# Altium schematic symbol library SamacSys.SchLib: 27 symbols
Pins are listed as number, name and electrical type; pins without a type are passive.

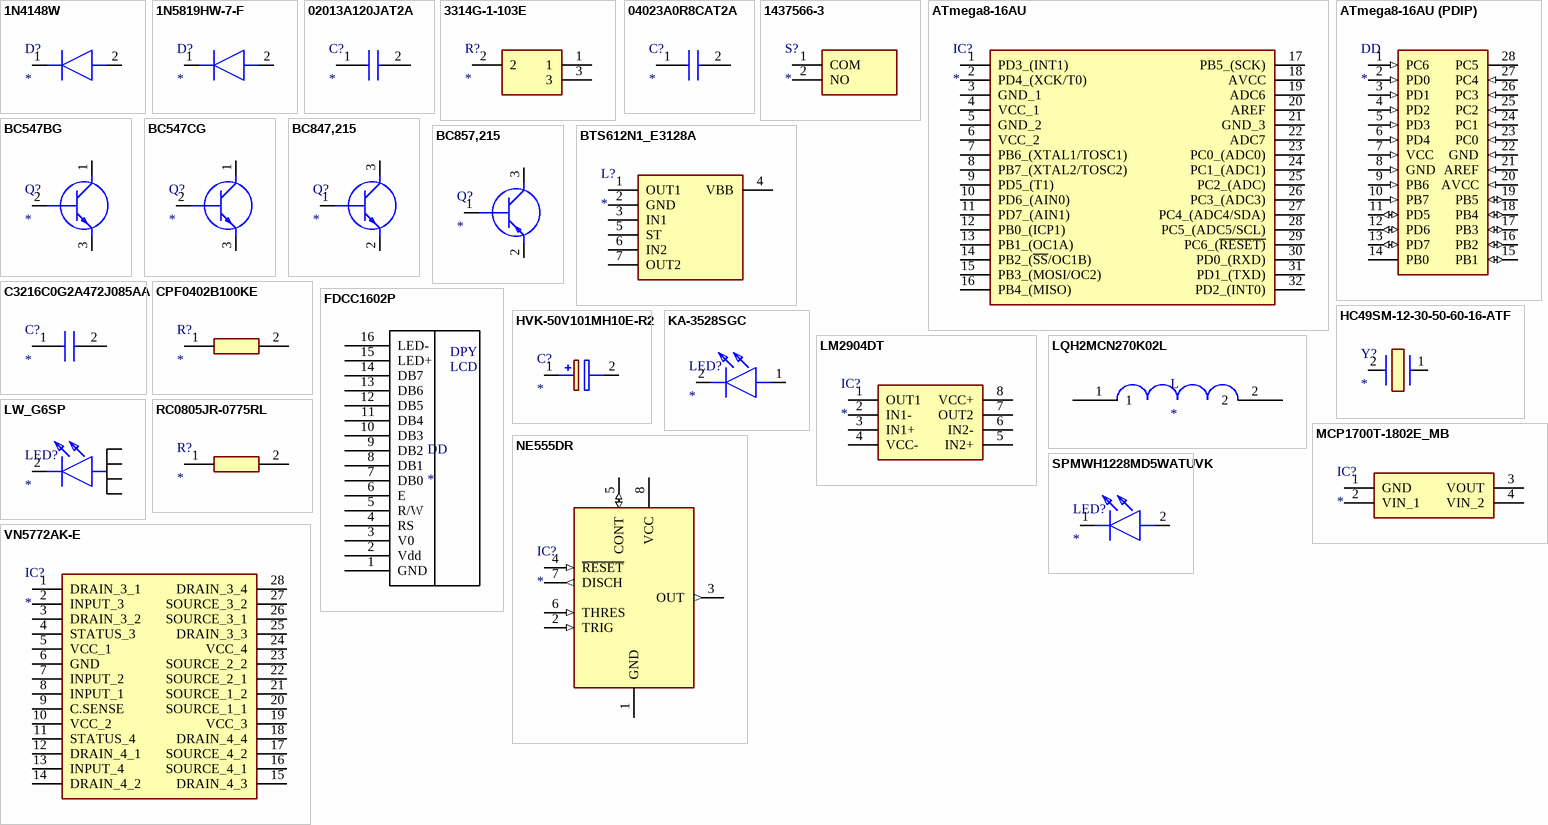
[diagram p0: symbols 1N4148W to VN5772AK-E]

## 1N4148W
designator D?
Diode; Manufacturer_Name: Rectron; Manufacturer_Part_Number: 1N4148W; Datasheet Link: https://www.rectron.com/public/product_datasheets/1n4148w.pdf; Height: 1.25mm; Mouser Part Number: 583-1N4148W; Mouser Price/Stock: https://www.mouser.co.uk/ProductDetail/Rectron/1N4148W?qs=rrS6PyfT74dlwuw0ST2zKA%3D%3D; Arrow Part Number: 1N4148W; Arrow Price/Stock: https://www.arrow.com/en/products/1n4148w/rectron?region=nac
footprint SOD3716X125N
pins: 1 K, 2 A

## 1N5819HW-7-F
designator D?
Diode; Manufacturer_Name: Diodes Inc.; Manufacturer_Part_Number: 1N5819HW-7-F; Datasheet Link: https://datasheet.datasheetarchive.com/originals/distributors/Datasheets-DGA23/1390892.pdf; Height: 1.45mm; Mouser Part Number: 621-1N5819HW-F; Mouser Price/Stock: https://www.mouser.co.uk/ProductDetail/Diodes-Incorporated/1N5819HW-7-F?qs=NQ47qNm99eDyWTEd07miYA%3D%3D; Arrow Part Number: 1N5819HW-7-F; Arrow Price/Stock: https://www.arrow.com/en/products/1n5819hw-7-f/diodes-incorporated?region=europe
footprint SOD3716X145N
pins: 1 K, 2 A

## 02013A120JAT2A
designator C?
Capacitor; Manufacturer_Name: AVX; Manufacturer_Part_Number: 02013A120JAT2A; Datasheet Link: http://www.mouser.com/catalog/supplier/library/pdf/AVXSurfaceMountCeramic.pdf; Height: 0.33mm; Mouser Part Number: 581-02013A120J; Mouser Price/Stock: https://www.mouser.com/Search/Refine.aspx?Keyword=581-02013A120J; Arrow Part Number: 02013A120JAT2A; Arrow Price/Stock: https://www.arrow.com/en/products/02013a120jat2a/avx
footprint CAPC0603X33N
pins: 1, 2

## 3314G-1-103E
designator R?
Resistor; Manufacturer_Name: Bourns; Manufacturer_Part_Number: 3314G-1-103E; Datasheet Link: https://componentsearchengine.com/Datasheets/2/3314G-1-103E.pdf; Mouser Part Number: 652-3314G-1-103E; Mouser Price/Stock: https://www.mouser.co.uk/ProductDetail/Bourns/3314G-1-103E?qs=5DXzRwmrLHHE6mxfh4g4uw%3D%3D; Arrow Part Number: 3314G-1-103E; Arrow Price/Stock: https://www.arrow.com/en/products/3314g-1-103e/bourns?region=nac
footprint 3314G-1-102E
pins: 1, 2, 3

## 04023A0R8CAT2A
designator C?
Capacitor; Manufacturer_Name: AVX; Manufacturer_Part_Number: 04023A0R8CAT2A; Datasheet Link: http://www.mouser.com/catalog/supplier/library/pdf/AVXSurfaceMountCeramic.pdf; Height: 0.56mm; Mouser Part Number: 581-04023A0R8CAT2A; Mouser Price/Stock: https://www.mouser.co.uk/ProductDetail/AVX/04023A0R8CAT2A?qs=ZwvTZoB9SO%252BVBOZ%252BNMbjzw%3D%3D
footprint CAPC1005X56N
pins: 1, 2

## 1437566-3
designator S?
Switch; Manufacturer_Name: TE Connectivity; Manufacturer_Part_Number: 1437566-3; Datasheet Link: https://www.te.com/commerce/DocumentDelivery/DDEController?Action=showdoc&DocId=Customer+Drawing%7F1437566-3%7FC2%7Fpdf%7FEnglish%7FENG_CD_1437566-3_C2_1437566_3_1_c.dwg.pdf%7F1437566-3; Height: 4.57mm; Mouser Part Number: N/A; Mouser Price/Stock: https://www.mouser.co.uk/ProductDetail/TE-Connectivity-Alcoswitch/1437566-3?qs=xoXDFGdkQ2nqx7TKB39mxQ%3D%3D; Arrow Part Number: 1437566-3; Arrow Price/Stock: https://www.arrow.com/en/products/1437566-3/te-connectivity?region=europe
footprint 14375663
pins: 1 COM, 2 NO

## ATmega8-16AU
designator IC?
Integrated Circuit; Manufacturer_Name: Microchip; Manufacturer_Part_Number: ATmega8-16AU; Datasheet Link: http://ww1.microchip.com/downloads/en/DeviceDoc/Atmel-2486-8-bit-AVR-microcontroller-ATmega8_L_datasheet.pdf; Height: 1.2mm; Mouser Part Number: 556-ATMEGA8-16AU; Mouser Price/Stock: https://www.mouser.co.uk/ProductDetail/Microchip-Technology-Atmel/ATMEGA8-16AU?qs=%2F3fErP%2Fu%252BPGc8UGe9qs8pw%3D%3D; Arrow Part Number: ATMEGA8-16AU; Arrow Price/Stock: https://www.arrow.com/en/products/atmega8-16au/microchip-technology?region=nac
footprint QFP80P900X900X120-32N
pins: 1 PD3_(INT1), 2 PD4_(XCK/T0), 3 GND_1, 4 VCC_1, 5 GND_2, 6 VCC_2, 7 PB6_(XTAL1/TOSC1), 8 PB7_(XTAL2/TOSC2), 9 PD5_(T1), 10 PD6_(AIN0), 11 PD7_(AIN1), 12 PB0_(ICP1), 13 PB1_(OC1A), 14 PB2_(~{SS}/OC1B), 15 PB3_(MOSI/OC2), 16 PB4_(MISO), 17 PB5_(SCK), 18 AVCC, 19 ADC6, 20 AREF, 21 GND_3, 22 ADC7, 23 PC0_(ADC0), 24 PC1_(ADC1), 25 PC2_(ADC), 26 PC3_(ADC3), 27 PC4_(ADC4/SDA), 28 PC5_(ADC5/SCL), 29 PC6_(~{RESET)}, 30 PD0_(RXD), 31 PD1_(TXD), 32 PD2_(INT0)

## ATmega8-16AU (PDIP)
designator DD
Integrated Circuit; Manufacturer_Name: Alliance Memory; Manufacturer_Part_Number: AS6C62256-55PCN; Datasheet Link: https://componentsearchengine.com/Datasheets/1/AS6C62256-55PCN.pdf; Height: 3.81mm; Mouser Part Number: 913-AS6C62256-55PCN; Mouser Price/Stock: https://www.mouser.co.uk/ProductDetail/Alliance-Memory/AS6C62256-55PCN?qs=LD2UibpCYJqgbIupMJnGTQ%3D%3D
footprint DIP1587W140P254L3632H381Q28N
pins: 1 PC6 (in), 2 PD0 (in), 3 PD1 (in), 4 PD2 (in), 5 PD3 (in), 6 PD4 (in), 7 VCC (in), 8 GND (in), 9 PB6 (in), 10 PB7 (in), 11 PD5 (io), 12 PD6 (io), 13 PD7 (io), 14 PB0 (power), 15 PB1 (io), 16 PB2 (io), 17 PB3 (io), 18 PB4 (io), 19 PB5 (io), 20 AVCC (in), 21 AREF (in), 22 GND (in), 23 PC0 (in), 24 PC1 (in), 25 PC2 (in), 26 PC3 (in), 27 PC4 (in), 28 PC5 (power)

## BC547BG
designator Q?
Transistor BJT NPN; Manufacturer_Name: onsemi; Manufacturer_Part_Number: BC547BG; Datasheet Link: https://datasheet.datasheetarchive.com/originals/distributors/Datasheets-23/DSA-455923.pdf; Height: 5.33mm; Mouser Part Number: N/A; Mouser Price/Stock: http://www.mouser.com/Search/ProductDetail.aspx?qs=NSmgnqlvnz5NIKIycfR5CQ%3d%3d; Arrow Part Number: BC547BG; Arrow Price/Stock: http://www.arrow.com/en/products/bc547bg/on-semiconductor
footprint TO-92_(TO-226)
pins: 1 C, 2 B, 3 E

## BC547CG
designator Q?
Transistor BJT NPN; Manufacturer_Name: onsemi; Manufacturer_Part_Number: BC547CG; Datasheet Link: https://www.onsemi.com/pub/Collateral/BC546-D.PDF; Height: 5.33mm; Mouser Part Number: 863-BC547CG; Mouser Price/Stock: https://www.mouser.co.uk/ProductDetail/onsemi/BC547CG?qs=vLkC5FC1VN%252BHx9C8w0tCew%3D%3D; Arrow Part Number: BC547CG; Arrow Price/Stock: https://www.arrow.com/en/products/bc547cg/on-semiconductor?region=nac
footprint TO-92_(TO-226)
pins: 1 C, 2 B, 3 E

## BC847,215
designator Q?
Transistor BJT NPN; Manufacturer_Name: Nexperia; Manufacturer_Part_Number: BC847,215; Description: BC847 series - 45 V; Datasheet Link: https://assets.nexperia.com/documents/data-sheet/BC847_SER.pdf; Height: 1.1mm; Mouser Part Number: 771-BC847215; Mouser Price/Stock: https://www.mouser.co.uk/ProductDetail/Nexperia/BC847215?qs=me8TqzrmIYWROhdFmDauyQ%3D%3D; Arrow Part Number: BC847,215; Arrow Price/Stock: https://www.arrow.com/en/products/bc847215/nexperia?region=nac
footprint BC847215
pins: 1 B, 2 E, 3 C

## BC857,215
designator Q?
Transistor BJT PNP; Manufacturer_Name: Nexperia; Manufacturer_Part_Number: BC857,215; Description: BC856; BC857; BC858 - PNP general purpose transistors; Datasheet Link: https://assets.nexperia.com/documents/data-sheet/BC856_BC857_BC858.pdf; Height: 1.1mm; Mouser Part Number: 771-BC857215; Mouser Price/Stock: https://www.mouser.co.uk/ProductDetail/Nexperia/BC857215?qs=me8TqzrmIYWtuVsCNoXfHg%3D%3D; Arrow Part Number: BC857,215; Arrow Price/Stock: https://www.arrow.com/en/products/bc857215/nexperia?region=nac
footprint BC857215
pins: 1 B, 2 E, 3 C

## BTS612N1_E3128A
designator L?
Inductor; Manufacturer_Name: Infineon; Manufacturer_Part_Number: BTS612N1 E3128A; Datasheet Link: https://www.mouser.com/datasheet/2/196/Infineon-BTS612N1 E3128A-DS-v01_00-EN-1150478.pdf; Height: 4.4mm; Mouser Part Number: 726-BTS612N1E3128A; Mouser Price/Stock: https://www.mouser.co.uk/ProductDetail/Infineon-Technologies/BTS612N1-E3128A?qs=rr3AYcQpCdfR9sZ1x5Hfig%3D%3D
footprint BTS612N1E3128A
pins: 1 OUT1, 2 GND, 3 IN1, 4 VBB, 5 ST, 6 IN2, 7 OUT2

## C3216C0G2A472J085AA
designator C?
Capacitor; Manufacturer_Name: TDK; Manufacturer_Part_Number: C3216C0G2A472J085AA; Datasheet Link: https://product.tdk.com/info/en/catalog/datasheets/mlcc_commercial_midvoltage_en.pdf; Height: 1mm; Mouser Part Number: 810-C3216C0G2A472J; Mouser Price/Stock: https://www.mouser.co.uk/ProductDetail/TDK/C3216C0G2A472J085AA?qs=NRhsANhppD8dRlrG8UGBug%3D%3D; Arrow Part Number: C3216C0G2A472J085AA; Arrow Price/Stock: https://www.arrow.com/en/products/c3216c0g2a472j085aa/tdk
footprint CAPC3216X100N
pins: 1, 2

## CPF0402B100KE
designator R?
Resistor; Manufacturer_Name: TE Connectivity; Manufacturer_Part_Number: CPF0402B100KE; Datasheet Link: http://www.farnell.com/datasheets/1786775.pdf; Height: 0.35mm; Mouser Part Number: 279-CPF0402B100KE; Mouser Price/Stock: https://www.mouser.co.uk/ProductDetail/TE-Connectivity-Holsworthy/CPF0402B100KE?qs=CXI0wBT1M2h4W2Gm72yIGA%3D%3D; Arrow Part Number: CPF0402B100KE; Arrow Price/Stock: https://www.arrow.com/en/products/cpf0402b100ke/te-connectivity?region=nac
footprint RESC1005X35N
pins: 1, 2

## FDCC1602P
designator DD
Display
footprint FDCC1602P (Display)
pins: 1 GND, 2 Vdd, 3 V0, 4 RS, 5 R/W, 6 E, 7 DB0, 8 DB1, 9 DB2, 10 DB3, 11 DB4, 12 DB5, 13 DB6, 14 DB7, 15 LED+, 16 LED-
text: DPY; LCD

## HC49SM-12-30-50-60-16-ATF
designator Y?
Crystal or Oscillator; Manufacturer_Name: MULTICOMP; Manufacturer_Part_Number: HC49SM-12-30-50-60-16-ATF; Datasheet Link: https://componentsearchengine.com/Datasheets/2/HC49SM-12-30-50-60-16-ATF.pdf; Height: 4mm
footprint HC49SM1230506016ATF
pins: 1, 2 X2

## HVK-50V101MH10E-R2
designator C?
Capacitor Polarised; Manufacturer_Name: Elna; Manufacturer_Part_Number: HVK-50V101MH10E-R2; Datasheet Link: http://www.elna.co.jp/en/capacitor/alumi/catalog/pdf/hvk_e_p30-31.pdf; Height: 10.5mm
footprint CAPAE1000X1050N
pins: 1 +, 2 -

## KA-3528SGC
designator LED?
LED; Manufacturer_Name: Kingbright; Manufacturer_Part_Number: KA-3528SGC; Datasheet Link: https://componentsearchengine.com/Datasheets/2/KA-3528SGC.pdf; Height: 2.1mm; Mouser Part Number: N/A; Mouser Price/Stock: https://www.mouser.co.uk/ProductDetail/Kingbright/KA-3528SGC?qs=Kyi72x88zz13uqpLS2dkBg%3D%3D; Arrow Part Number: KA-3528SGC; Arrow Price/Stock: https://www.arrow.com/en/products/ka-3528sgc/kingbright
footprint KA3528SGC
pins: 1 A, 2 K

## LM2904DT
designator IC?
Integrated Circuit; Manufacturer_Name: STMicroelectronics; Manufacturer_Part_Number: LM2904DT; Datasheet Link: https://www.st.com/resource/en/datasheet/lm2904a.pdf; Height: 1.75mm; Mouser Part Number: 511-LM2904DT; Mouser Price/Stock: https://www.mouser.co.uk/ProductDetail/STMicroelectronics/LM2904DT?qs=JSoa1c5x8n1iuXDS2T5rbg%3D%3D; Arrow Part Number: LM2904DT; Arrow Price/Stock: https://www.arrow.com/en/products/lm2904dt/stmicroelectronics?region=nac
footprint SOIC127P600X175-8N
pins: 1 OUT1, 2 IN1-, 3 IN1+, 4 VCC-, 5 IN2+, 6 IN2-, 7 OUT2, 8 VCC+

## LQH2MCN270K02L
designator L
Inductor
footprint LQH2MCN100K02L
pins: 1, 2

## LW_G6SP
designator LED?
LED; Manufacturer_Name: AMS OSRAM GROUP; Manufacturer_Part_Number: LR G6SP.02-U1V2-1-A3D3+8D7E-46-G3R3; Datasheet Link: https://dammedia.osram.info/media/resource/hires/osram-dam-24554044/LR%20G6SP.02%20-%20Dual%20binning_EN.pdf; Height: 2.1mm; Mouser Part Number: 720-LRG602U1V21A3D3; Mouser Price/Stock: https://www.mouser.co.uk/ProductDetail/ams-OSRAM/LR-G6SP.02-U1V2-1-A3D3%2b8D7E-46-G3R3?qs=tlsG%2FOw5FFhJPIfYO9wXCg%3D%3D
footprint LRG6SP02U1V21A3D38D7E46G3R3
pins: 1 A, 2 K, 3 A, 4 A, 6 A

## MCP1700T-1802E_MB
designator IC?
Integrated Circuit; Manufacturer_Name: Microchip; Manufacturer_Part_Number: MCP1700T-1802E/MB; Datasheet Link: https://datasheet.datasheetarchive.com/originals/distributors/Datasheets-DGA25/1767215.pdf; Height: 1.6mm; Mouser Part Number: 579-MCP1700T1802E/MB; Mouser Price/Stock: https://www.mouser.co.uk/ProductDetail/Microchip-Technology/MCP1700T-1802E-MB?qs=MvcPkWSywoxAsudcjKzZ7Q%3D%3D; Arrow Part Number: MCP1700T-1802E/MB; Arrow Price/Stock: https://www.arrow.com/en/products/mcp1700t-1802emb/microchip-technology?region=nac
footprint MCP1700T1802EMB
pins: 1 GND, 2 VIN_1, 3 VOUT, 4 VIN_2

## NE555DR
designator IC?
Integrated Circuit; Manufacturer_Name: Texas Instruments; Manufacturer_Part_Number: NE555DR; Datasheet Link: http://www.ti.com/lit/ds/symlink/ne555.pdf; Height: 1.75mm; Mouser Part Number: 595-NE555DR; Mouser Price/Stock: https://www.mouser.com/Search/Refine.aspx?Keyword=595-NE555DR; RS Part Number: 1218414; RS Price/Stock: http://uk.rs-online.com/web/p/products/1218414
footprint SOIC127P600X175-8N
pins: 1 GND (power), 2 TRIG (in), 3 OUT (out), 4 ~{RESET} (in), 5 CONT (io), 6 THRES (in), 7 DISCH (out), 8 VCC (power)

## RC0805JR-0775RL
designator R?
Resistor; Manufacturer_Name: KEMET; Manufacturer_Part_Number: RC0805JR-0775RL; Datasheet Link: http://www.yageo.com/documents/recent/PYu-RC_Group_51_RoHS_L_10.pdf; Height: 0.6mm; Mouser Part Number: 603-RC0805JR-0775RL; Mouser Price/Stock: https://www.mouser.co.uk/ProductDetail/YAGEO/RC0805JR-0775RL?qs=fRxXYNj8ftE7wS9ni6fn7Q%3D%3D
footprint RESC2012X60N
pins: 1, 2

## SPMWH1228MD5WATUVK
designator LED?
LED; Manufacturer_Name: Arrow Electronics; Manufacturer_Part_Number: SPMWH1228MD5WATUVK; Datasheet Link: https://cdn.samsung.com/led/file/resource/2020/07/Data_Sheet_LM281B_Plus_Pro_VK_Rev.0.8.pdf; Height: 0.8mm
footprint SPMWH1228MD5WATUVK
pins: 1 K, 2 A

## VN5772AK-E
designator IC?
Integrated Circuit; Manufacturer_Name: STMicroelectronics; Manufacturer_Part_Number: VN5772AK-E; Datasheet Link: https://www.st.com/content/ccc/resource/technical/document/datasheet/e0/58/1d/2c/ba/8b/48/85/CD00243526.pdf/files/CD00243526.pdf/jcr:content/translations/en.CD00243526.pdf; Height: 2.65mm; Mouser Part Number: 511-VN5772AK-E; Mouser Price/Stock: https://www.mouser.com/Search/Refine.aspx?Keyword=511-VN5772AK-E
footprint SOIC127P1032X265-28N
pins: 1 DRAIN_3_1, 2 INPUT_3, 3 DRAIN_3_2, 4 STATUS_3, 5 VCC_1, 6 GND, 7 INPUT_2, 8 INPUT_1, 9 C.SENSE, 10 VCC_2, 11 STATUS_4, 12 DRAIN_4_1, 13 INPUT_4, 14 DRAIN_4_2, 15 DRAIN_4_3, 16 SOURCE_4_1, 17 SOURCE_4_2, 18 DRAIN_4_4, 19 VCC_3, 20 SOURCE_1_1, 21 SOURCE_1_2, 22 SOURCE_2_1, 23 SOURCE_2_2, 24 VCC_4, 25 DRAIN_3_3, 26 SOURCE_3_1, 27 SOURCE_3_2, 28 DRAIN_3_4